# Altium schematic symbol library ICs.SchLib: 8 symbols
Pins are listed as number, name and electrical type; pins without a type are passive.

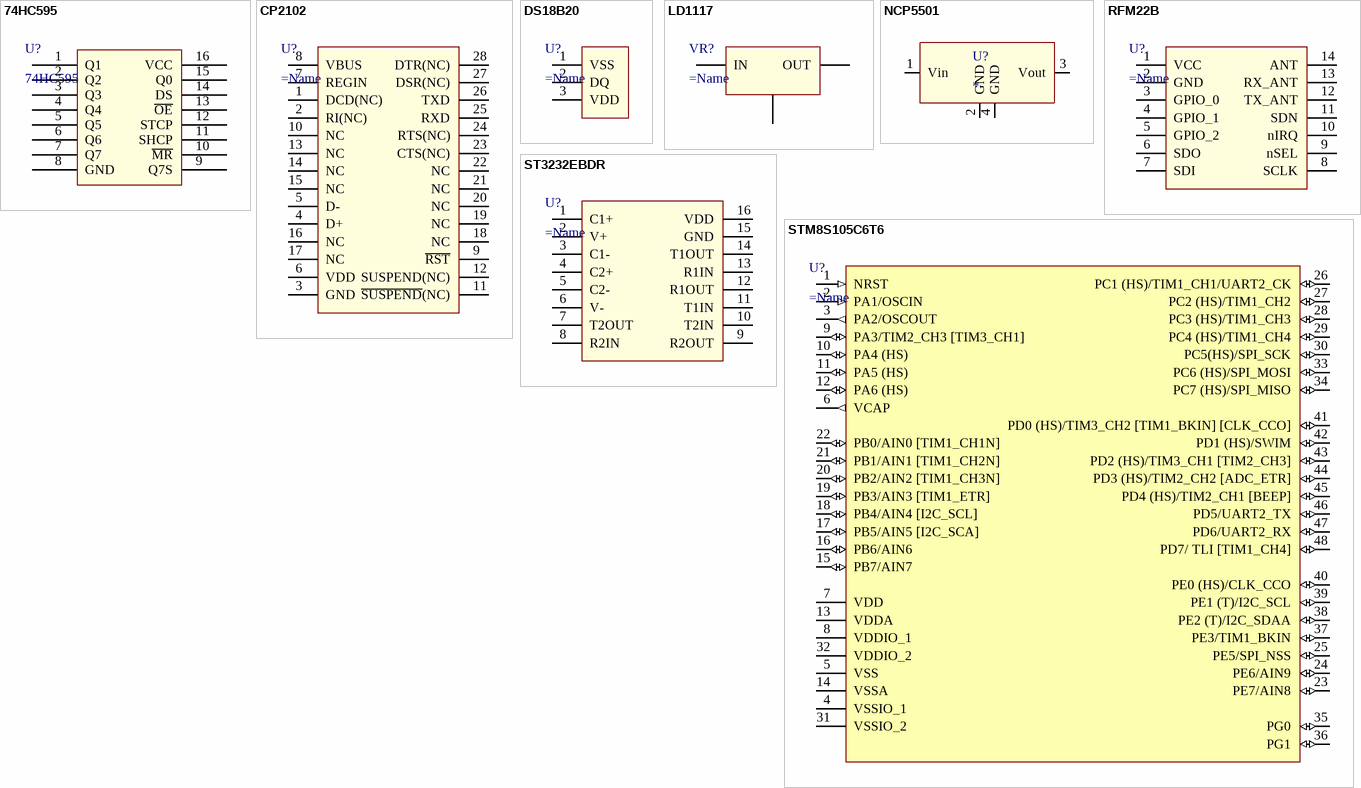
[diagram p0: symbols 74HC595 to STM8S105C6T6]

## 74HC595
designator U?
Shift Register; Name: 74HC595
footprint SO-16_M (SOP, 16-Leads, Body 9,90x3,90mm, Pitch 1,27mm, IPC Medium Density)
pins: 1 Q1, 2 Q2, 3 Q3, 4 Q4, 5 Q5, 6 Q6, 7 Q7, 8 GND, 9 Q7S, 10 ~{MR}, 11 SHCP, 12 STCP, 13 ~{OE}, 14 DS, 15 Q0, 16 VCC

## CP2102
designator U?
USB - UART
pins: 1 DCD(NC), 2 RI(NC), 3 GND, 4 D+, 5 D-, 6 VDD, 7 REGIN, 8 VBUS, 9 ~{RST}, 10 NC, 11 ~{SUSPEND}(NC), 12 SUSPEND(NC), 13 NC, 14 NC, 15 NC, 16 NC, 17 NC, 18 NC, 19 NC, 20 NC, 21 NC, 22 NC, 23 CTS(NC), 24 RTS(NC), 25 RXD, 26 TXD, 27 DSR(NC), 28 DTR(NC)

## DS18B20
designator U?
Digital termometer
pins: 1 VSS, 2 DQ, 3 VDD

## LD1117
designator VR?
Voltage Regulator
pins: 1 IN, 2 GND, 3 OUT

## NCP5501
designator U?
footprint DPAK 3
pins: 1 Vin, 2 GND, 3 Vout, 4 GND

## RFM22B
designator U?
Transmitter
pins: 1 VCC, 2 GND, 3 GPIO_0, 4 GPIO_1, 5 GPIO_2, 6 SDO, 7 SDI, 8 SCLK, 9 nSEL, 10 nIRQ, 11 SDN, 12 TX_ANT, 13 RX_ANT, 14 ANT

## ST3232EBDR
designator U?
RS-232 - UART
pins: 1 C1+, 2 V+, 3 C1-, 4 C2+, 5 C2-, 6 V-, 7 T2OUT, 8 R2IN, 9 R2OUT, 10 T2IN, 11 T1IN, 12 R1OUT, 13 R1IN, 14 T1OUT, 15 GND, 16 VDD

## STM8S105C6T6
designator U?
Microcontroller
pins: 1 NRST (in), 2 PA1/OSCIN (in), 3 PA2/OSCOUT (out), 4 VSSIO_1, 5 VSS, 6 VCAP (out), 7 VDD, 8 VDDIO_1, 9 PA3/TIM2_CH3 [TIM3_CH1] (io), 10 PA4 (HS) (io), 11 PA5 (HS) (io), 12 PA6 (HS) (io), 13 VDDA, 14 VSSA, 15 PB7/AIN7 (io), 16 PB6/AIN6 (io), 17 PB5/AIN5 [I2C_SCA] (io), 18 PB4/AIN4 [I2C_SCL] (io), 19 PB3/AIN3 [TIM1_ETR] (io), 20 PB2/AIN2 [TIM1_CH3N] (io), 21 PB1/AIN1 [TIM1_CH2N] (io), 22 PB0/AIN0 [TIM1_CH1N] (io), 23 PE7/AIN8 (io), 24 PE6/AIN9 (io), 25 PE5/SPI_NSS (io), 26 PC1 (HS)/TIM1_CH1/UART2_CK (io), 27 PC2 (HS)/TIM1_CH2 (io), 28 PC3 (HS)/TIM1_CH3 (io), 29 PC4 (HS)/TIM1_CH4 (io), 30 PC5(HS)/SPI_SCK (io), 31 VSSIO_2, 32 VDDIO_2, 33 PC6 (HS)/SPI_MOSI (io), 34 PC7 (HS)/SPI_MISO (io), 35 PG0 (io), 36 PG1 (io), 37 PE3/TIM1_BKIN (io), 38 PE2 (T)/I2C_SDAA (io), 39 PE1 (T)/I2C_SCL (io), 40 PE0 (HS)/CLK_CCO (io), 41 PD0 (HS)/TIM3_CH2 [TIM1_BKIN] [CLK_CCO] (io), 42 PD1 (HS)/SWIM (io), 43 PD2 (HS)/TIM3_CH1 [TIM2_CH3] (io), 44 PD3 (HS)/TIM2_CH2 [ADC_ETR] (io), 45 PD4 (HS)/TIM2_CH1 [BEEP] (io), 46 PD5/UART2_TX (io), 47 PD6/UART2_RX (io), 48 PD7/ TLI [TIM1_CH4] (io)